# Altium schematic symbol library Schlib1.SchLib: 2 symbols
Pins are listed as number, name and electrical type; pins without a type are passive.

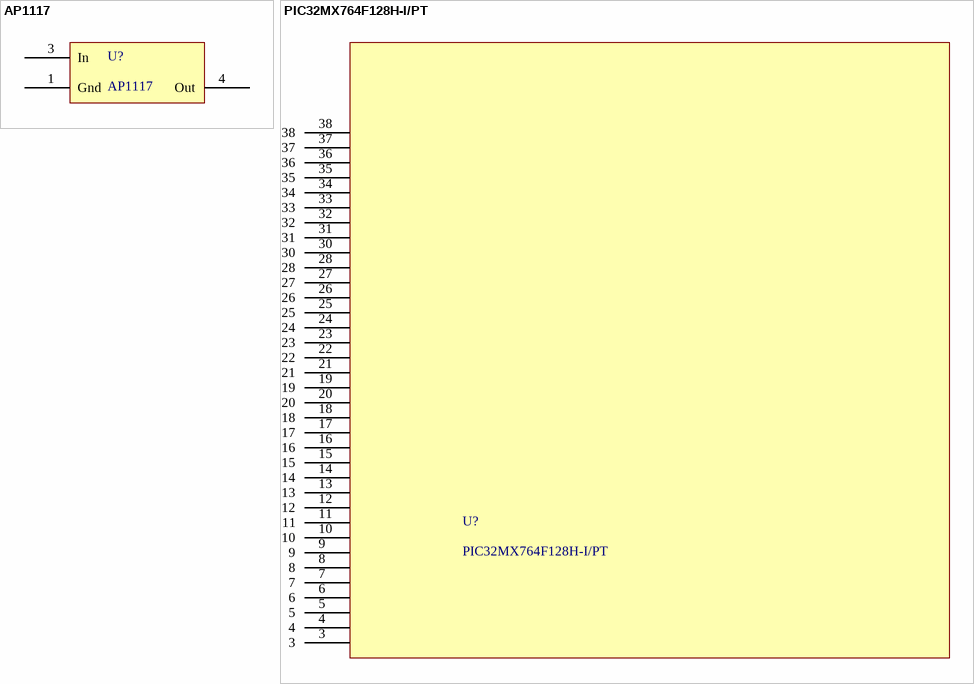
[diagram p0: symbols AP1117 to PIC32MX764F128H-I/PT]

## AP1117
designator U?
pins: 1 Gnd (power), 3 In (power), 4 Out (power)

## PIC32MX764F128H-I/PT
designator U?
pins: 3, 4, 5, 6, 7, 8, 9, 10, 11, 12, 13, 14, 15, 16, 17, 18, 19, 20, 21, 22, 23, 24, 25, 26, 27, 28, 30, 31, 32, 33, 34, 35, 36, 37, 38